# EAGLE library part ESP32 (library ESP32-S2 v9)
Espressif ESP32 WiFi-compatible SoC microcontroller. Bluetooth Low energy support (BLE, BT4.0, Bluetooth Smart) 28 GPIO pins Dual-core Tensilica LX6 microprocessor Hardware accelerated encryption (AES, SHA2, ECC, RSA-4096) 4MB Flash memory 520kB internal SRAM Datasheet <https://cdn.sparkfun.com/datasheets/IoT/esp32_datasheet_en.pdf> SparkFun Products: SparkFun ESP32 Thing <https://www.sparkfun.com/products/13907>
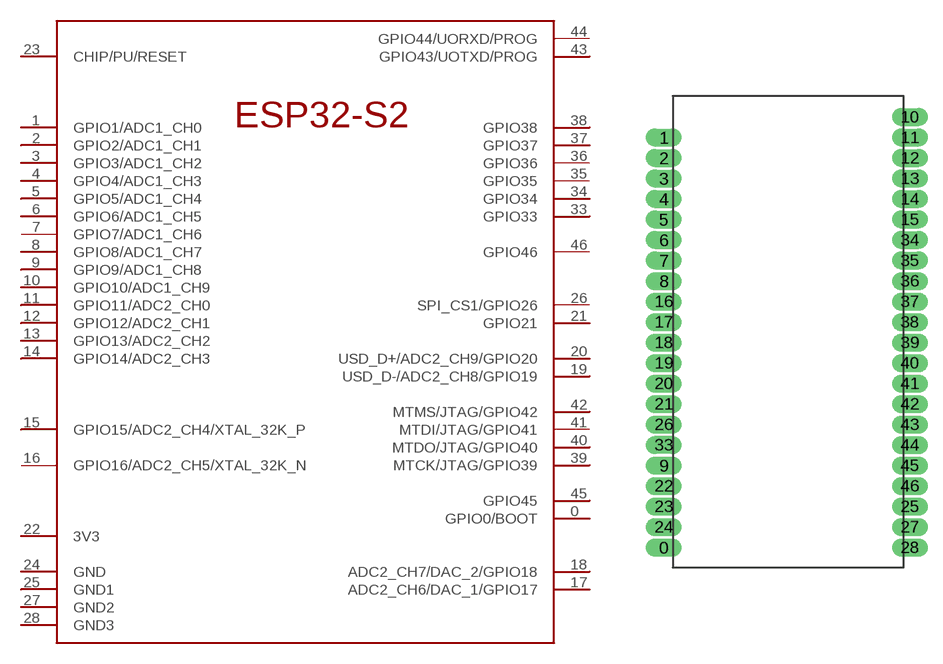
[diagram p0: symbol with the pads of QFN48-0.4MM; footprint QFN48-0.4MM]

Designator prefix U

## ESP32 (PROD_ID: IC-13338)  [QFN48-0.4MM]
0  GPIO0/BOOT
1  GPIO1/ADC1_CH0
2  GPIO2/ADC1_CH1
3  GPIO3/ADC1_CH2
4  GPIO4/ADC1_CH3
5  GPIO5/ADC1_CH4
6  GPIO6/ADC1_CH5
7  GPIO7/ADC1_CH6
8  GPIO8/ADC1_CH7
9  GPIO9/ADC1_CH8
10  GPIO10/ADC1_CH9
11  GPIO11/ADC2_CH0
12  GPIO12/ADC2_CH1
13  GPIO13/ADC2_CH2
14  GPIO14/ADC2_CH3
15  GPIO15/ADC2_CH4/XTAL_32K_P
16  GPIO16/ADC2_CH5/XTAL_32K_N
17  ADC2_CH6/DAC_1/GPIO17
18  ADC2_CH7/DAC_2/GPIO18
19  USD_D-/ADC2_CH8/GPIO19
20  USD_D+/ADC2_CH9/GPIO20
21  GPIO21
22  3V3  pwr
23  CHIP/PU/RESET
24  GND  pwr
25  GND1  pwr
26  SPI_CS1/GPIO26
27  GND2  pwr
28  GND3  pwr
33  GPIO33
34  GPIO34
35  GPIO35
36  GPIO36
37  GPIO37
38  GPIO38
39  MTCK/JTAG/GPIO39
40  MTDO/JTAG/GPIO40
41  MTDI/JTAG/GPIO41
42  MTMS/JTAG/GPIO42
43  GPIO43/UOTXD/PROG
44  GPIO44/UORXD/PROG
45  GPIO45
46  GPIO46

## Footprint QFN48-0.4MM (pad centres in mm)
QFN 48 Pin Specifications: Pin count: 48 Pin pitch: 0.4mm Datasheet referenced for footprint <https://cdn.sparkfun.com/datasheets/IoT/esp32_datasheet_en.pdf> Example device(s): ESP32
drill 0.6 long: 0 3.81,2.54; 1 3.81,27.94; 2 3.81,26.67; 3 3.81,25.4; 4 3.81,24.13; 5 3.81,22.86; 6 3.81,21.59; 7 3.81,20.32; 8 3.81,19.05; 9 3.81,7.62; 10 19.05,29.21; 11 19.05,27.94; 12 19.05,26.67; 13 19.05,25.4; 14 19.05,24.13; 15 19.05,22.86; 16 3.81,17.78; 17 3.81,16.51; 18 3.81,15.24; 19 3.81,13.97; 20 3.81,12.7; 21 3.81,11.43; 22 3.81,6.35; 23 3.81,5.08; 24 3.81,3.81; 25 19.05,5.08; 26 3.81,10.16; 27 19.05,3.81; 28 19.05,2.54; 33 3.81,8.89; 34 19.05,21.59; 35 19.05,20.32; 36 19.05,19.05; 37 19.05,17.78; 38 19.05,16.51; 39 19.05,15.24; 40 19.05,13.97; 41 19.05,12.7; 42 19.05,11.43; 43 19.05,10.16; 44 19.05,8.89; 45 19.05,7.62; 46 19.05,6.35